# Altium footprint library Seeed-OPL-Resistor.PCBLIB: 55 footprints (part 2 of 4)
Each footprint in its own frame and in the unit in brackets; x right, y up, seen from the top. Pads: shape width x height; smd on the part's side, far side on the other; paste and mask are expansions set on the pad; w line width, h text height; cw(c..) or ccw(c..) is an arc to the next point about the centre after c.
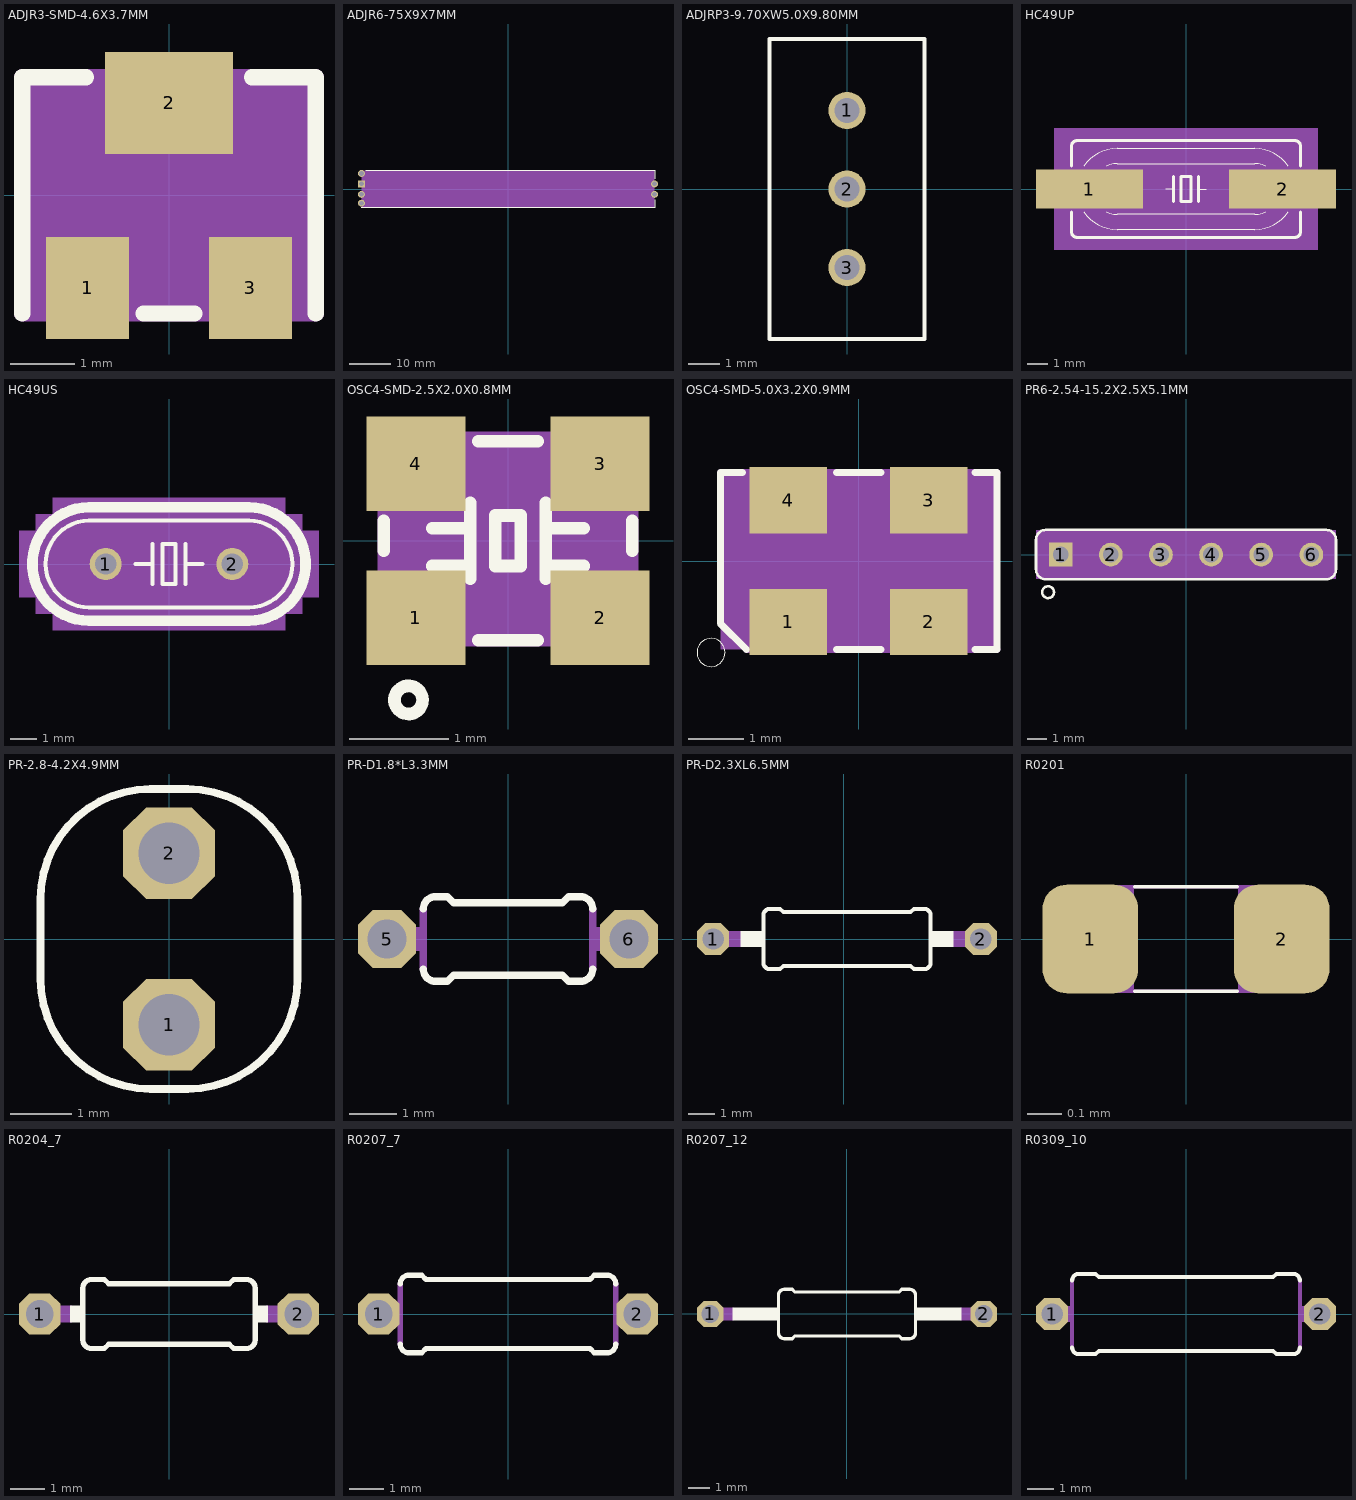
[diagram p1: the footprints below, top view; thin cyan lines are the x and y axes]

## ADJR3-SMD-4.6X3.7MM [mm]
pads (3):
  rect 1.3x1.6 smd: 1(-1.275,-1.45) 3(1.275,-1.45)
  rect 2x1.6 smd: 2(0,1.45)
Top Overlay:
  lines w0.254: -2.3,-1.85 -2.3,1.85 -1.3,1.85 ; -0.4,-1.85 0.4,-1.85 ; 1.3,1.85 2.3,1.85 2.3,-1.85
Mechanical 16:
  circle w0.102: c1.2,0.65 r0.7
  rectangle: 0.55,0.55 1.85,0.75
  rectangle: -1.8,-2.1 -0.75,-1.95
  rectangle: 0.75,-2.1 1.8,-1.95
  rectangle: -0.75,1.95 0.75,2.1
  lines w0.254: -2.3,-1.85 -2.3,1.85 2.3,1.85 2.3,-1.85 -2.3,-1.85
Mechanical 27:
  rectangle: -2.286,-1.905 2.286,1.905

## ADJR6-75X9X7MM [mm]
pads (6):
  rect 1.65x1.65 hole 1.1: 1(-35,1.25)
  round 1.65 hole 1.1: 2(-35,3.75) 3(35,1.25) B(35,-1.25) E(-35,-3.35) L(-35,-1.25)
Top Overlay:
  lines w0.127: -35,-4.5 35,-4.5 35,-2.5 ; -34,4.5 35,4.5 35,2.5
Mechanical 27:
  rectangle: -35,-4.5 35,4.5

## ADJRP3-9.70XW5.0X9.80MM [mil]
pads (3):
  round 47.25 hole 31.5: 1(0,100) 2(0,0) 3(0,-100)
Top Overlay:
  lines w5: -98.43,-190.94 98.43,-190.94 98.43,190.94 -98.43,190.94 -98.43,-190.94

## HC49UP [mil]
pads (2):
  rect 210x76 smd: 1(-190,0) 2(190,0)
Top Overlay:
  lines w2: -201.15,-45 ccw(c-135,0) -135,-80 135,-80 ccw(c135,0) 201.14,-45 ; -201.15,45 cw(c-135,-0.01) -135,80 135,80 cw(c135,0) 201.15,45 ; -156.8,-45 ccw(c-135,0.01) -135,-50 135,-50 ccw(c135,0.01) 156.8,-45 ; -156.8,45 cw(c-135,-0.01) -135,50 135,50 cw(c135,-0.01) 156.8,45 ; -40,0 -25,0 ; 25,0 40,0
  lines w6: -225,-45 -225,-85 ccw(c-215,-85) -215,-95 215,-95 ccw(c215,-85) 225,-85 225,-45 ; -225,45 -225,85 cw(c-215,85) -215,95 215,95 cw(c215,85) 225,85 225,45 ; -25,-25 -25,0 -25,25 ; 25,-25 25,0 25,25 ; -10,-25 -10,25 10,25 10,-25 -10,-25
Mechanical 10:
  rectangle: -260,-120 260,120
Mechanical 16:
  lines w2: -201.15,-45 cw(c-135,0) -201.15,45 ; -156.8,-45 cw(c-135,0) -156.8,45 ; 156.8,-45 ccw(c135,0) 156.8,45 ; 201.15,-45 ccw(c135,0) 201.15,45
  lines w6: -225,-45 -225,-15 ; -225,45 -225,15 ; 225,-45 225,45 ; 225,-15 255,-15 255,15 225,15 ; -225,-15 -225,15 ; -225,-15 -255,-15 -255,15 -225,15

## HC49US [mil]
pads (2):
  round 48 hole 32: 1(-95,0) 2(95,0)
Top Overlay:
  lines w6: -50,0 -25,0 ; -25,-30 -25,0 ; -25,30 -25,0 ; 25,-30 25,0 ; 25,30 25,0 ; 50,0 25,0 ; -120,-65 120,-65 ccw(c120,0) 120,65 -120,65 ccw(c-120,0) -120,-65 ; -10,-30 10,-30 10,30 -10,30 -10,-30
  lines w16: -120,-85 120,-85 ccw(c120,0) 120,85 -120,85 ccw(c-120,0) -120,-85
Mechanical 10:
  rectangle: -175,-100 175,100
  rectangle: -200,-75 -175,75
  rectangle: -225,-50 -200,50
  rectangle: 175,-75 200,75
  rectangle: 200,-50 225,50

## OSC4-SMD-2.5X2.0X0.8MM [mm]
pads (4):
  rect 1x0.95 smd: 1(-0.925,-0.775) 2(0.925,-0.775) 3(0.925,0.775) 4(-0.925,0.775)
Top Overlay:
  circle w0.127: c-1,-1.6 r0.141
  lines w0.127: -1.25,-0.1 -1.25,0.2 ; -0.762,-0.254 -0.381,-0.254 ; -0.762,0.127 -0.381,0.127 ; -0.381,-0.381 -0.381,-0.254 ; -0.381,0.381 -0.381,0.127 ; -0.3,-1 0.3,-1 ; -0.3,1 0.3,1 ; 0.381,-0.381 0.381,-0.254 ; 0.381,0.381 0.381,0.127 ; 0.762,-0.254 0.381,-0.254 ; 0.762,0.127 0.381,0.127 ; 1.25,-0.1 1.25,0.2 ; -0.381,-0.254 -0.381,0.127 ; 0.381,-0.254 0.381,0.127 ; -0.127,-0.254 -0.127,0.254 0.127,0.254 0.127,-0.254 -0.127,-0.254
Mechanical 16:
  lines w0.127: -1.25,-0.729 -0.979,-1 1.25,-1 1.25,1 -1.25,1 -1.25,-0.729
Mechanical 27:
  rectangle: -1.3,-1 1.3,1.1

## OSC4-SMD-5.0X3.2X0.9MM [mil]
pads (4):
  rect 55.12x47.24 smd: 1(-50,-43.31) 2(50,-43.31) 3(50,43.31) 4(-50,43.31)
Top Overlay:
  circle w0: c-105,-65 r10
  lines w5: -82.68,62.99 -98.43,62.99 -98.43,-44.31 -79.74,-62.99 ; -15.75,-62.99 15.75,-62.99 ; -15.75,62.99 15.75,62.99 ; 82.68,-62.99 98.43,-62.99 98.43,62.99 82.68,62.99
Mechanical 16:
  lines w5: -98.43,62.99 98.43,62.99 ; -79.74,-62.99 98.43,-62.99
Mechanical 27:
  rectangle: -98.43,-62.99 98.43,62.99

## PR6-2.54-15.2X2.5X5.1MM [mil]
pads (6):
  rect 47.25x47.25 hole 31.5: 1(-250,0)
  round 47.25 hole 31.5: 2(-150,0) 3(-50,0) 4(50,0) 5(150,0) 6(250,0)
Top Overlay:
  circle w5: c-275,-75 r11.81
  lines w5: -299.21,-29.53 ccw(c-279.53,-29.53) -279.53,-49.21 279.53,-49.21 ccw(c279.53,-29.53) 299.21,-29.53 299.21,29.53 ccw(c279.53,29.53) 279.53,49.21 -279.53,49.21 ccw(c-279.53,29.53) -299.21,29.53 -299.21,-29.53
Mechanical 27:
  rectangle: -299.21,-49.21 299.21,49.21

## PR-2.8-4.2X4.9MM [mm]
pads (2):
  oct 1.5x1.5 hole 1: 1(0,-1.4) 2(0,1.4)
Top Overlay:
  lines w0.127: -2.1,-0.65 -2.1,0.65 cw(c-0.3,0.65) -0.3,2.45 0.3,2.45 cw(c0.3,0.65) 2.1,0.65 2.1,-0.65 cw(c0.3,-0.65) 0.3,-2.45 -0.3,-2.45 cw(c-0.3,-0.65) -2.1,-0.65

## PR-D1.8*L3.3MM [mil]
pads (2):
  oct 48x48 hole 32: 5(-100,0) 6(100,0)
Top Overlay:
  lines w6: -70,-25 ccw(c-60,-25) -60,-35 -50,-35 -45,-30 45,-30 50,-35 60,-35 ccw(c60,-25) 70,-25 ; -70,25 cw(c-60,25) -60,35 -50,35 -45,30 45,30 50,35 60,35 cw(c60,25) 70,25
Mechanical 16:
  rectangle: -80,-10 -70,10
  rectangle: 70,-10 80,10
  lines w6: -70,-25 -70,25 ; 70,-25 70,25
  lines w20: -100,0 -80,0 ; 80,0 100,0

## PR-D2.3XL6.5MM [mil]
pads (2):
  oct 48x48 hole 32: 1(-195,0) 2(205,0)
Top Overlay:
  rectangle: 130,-12 164,12
  rectangle: -154,-12 -120,12
  lines w6: -120,-35 ccw(c-110,-35) -110,-45 -95,-45 -90,-40 100,-40 105,-45 120,-45 ccw(c120,-35) 130,-35 130,35 ccw(c120,35) 120,45 105,45 100,40 -90,40 -95,45 -110,45 ccw(c-110,35) -120,35 -120,-35
Mechanical 16:
  lines w24: -195,0 -155,0 ; 165,0 205,0

## R0201 [mil]
pads (2):
  rrect50% 11x12.5 smd: 1(-11,0) 2(11,0)
Top Overlay:
  lines w0.39: -5.91,-6 5.91,-6 ; -5.91,6 5.91,6
Mechanical 16:
  rectangle: -12,-6 -6,6
  rectangle: 6,-6 12,6
  lines w0.39: -12,-6 12,-6 12,6 -12,6 -12,-6

## R0204_7 [mil]
pads (2):
  oct 48x48 hole 32: 1(-150,0) 2(150,0)
Top Overlay:
  rectangle: 100,-10 115,10
  rectangle: -115,-10 -100,10
  lines w6: -100,-30 ccw(c-90,-30) -90,-40 -75,-40 -70,-35 70,-35 75,-40 90,-40 ccw(c90,-30) 100,-30 100,30 ccw(c90,30) 90,40 75,40 70,35 -70,35 -75,40 -90,40 ccw(c-90,30) -100,30 -100,-30
Mechanical 16:
  lines w20: -150,0 -115,0 ; 115,0 150,0

## R0207_7 [mil]
pads (2):
  oct 48x48 hole 32: 1(-150,0) 2(150,0)
Top Overlay:
  lines w6: -125,-35 ccw(c-115,-35) -115,-45 -100,-45 -95,-40 95,-40 100,-45 115,-45 ccw(c115,-35) 125,-35 ; -125,35 cw(c-115,35) -115,45 -100,45 -95,40 95,40 100,45 115,45 cw(c115,35) 125,35
Mechanical 16:
  rectangle: -135,-12 -125,12
  rectangle: 125,-12 135,12
  lines w6: -125,-35 -125,35 ; 125,-35 125,35
  lines w24: -150,0 -135,0 ; 135,0 150,0

## R0207_12 [mil]
pads (2):
  oct 48x48 hole 32: 1(-250,0) 2(250,0)
Top Overlay:
  rectangle: 125,-12 159,12
  rectangle: -159,-12 -125,12
  rectangle: 175,-12 209,12
  rectangle: -209,-12 -175,12
  lines w6: -125,-35 ccw(c-115,-35) -115,-45 -100,-45 -95,-40 95,-40 100,-45 115,-45 ccw(c115,-35) 125,-35 125,35 ccw(c115,35) 115,45 100,45 95,40 -95,40 -100,45 -115,45 ccw(c-115,35) -125,35 -125,-35
  lines w24: -175,0 -160,0 ; 160,0 175,0
Mechanical 16:
  lines w24: -250,0 -210,0 ; 210,0 250,0

## R0309_10 [mil]
pads (2):
  oct 48x48 hole 32: 1(-200,0) 2(200,0)
Top Overlay:
  lines w6: -170,-50 ccw(c-160,-50) -160,-60 -135,-60 -130,-55 130,-55 135,-60 160,-60 ccw(c160,-50) 170,-50 ; -170,50 cw(c-160,50) -160,60 -135,60 -130,55 130,55 135,60 160,60 cw(c160,50) 170,50
Mechanical 16:
  rectangle: -182,-12 -170,12
  rectangle: 170,-12 182,12
  lines w6: -170,-50 -170,50 ; 170,-50 170,50
  lines w24: -200,0 -185,0 ; 185,0 200,0